# EAGLE library part SD_CARD (library PP_Connectors)
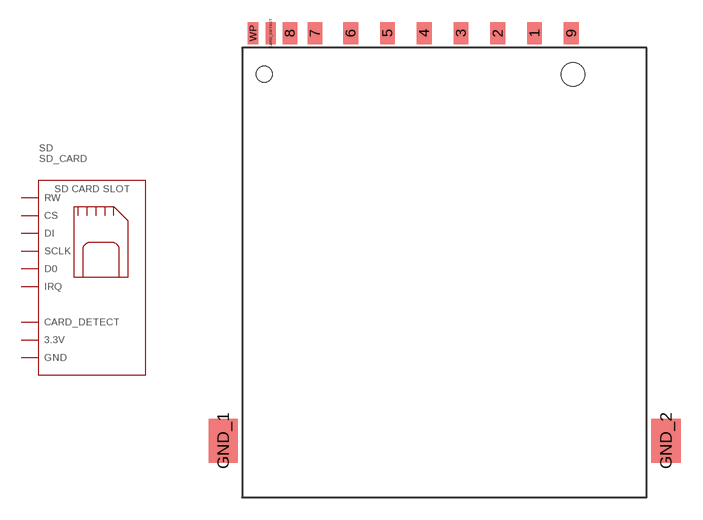
[diagram p5: symbol with the pads of SD-RSMT-2-MQ; footprint SD-RSMT-2-MQ]

Designator prefix SD

## SD_CARD_SD-RSMT-2-MQ (POPULATE: 1)  [SD-RSMT-2-MQ]
1  CS
2  DI
3  GND
4  3.3V
5  SCLK
6  GND
7  D0
8  IRQ
9  RW
CARD_DETECT  CD
GND_1  GND
GND_2  GND

## Footprint SD-RSMT-2-MQ (pad centres in mm)
smd 1 x 1.5: 1 6.88,0; 2 4.38,0; 3 1.88,0; 4 -0.62,0; 5 -3.12,0; 6 -5.62,0; 7 -8.05,0; 8 -9.75,0; 9 9.38,0
smd 0.7 x 1.5: CARD_DETECT -11.05,0; WP -12.25,0
smd 2 x 3: GND_1 -14.28,-27.75; GND_2 15.82,-27.75
hole 1.6 at 9.5,-2.8
hole 1.1 at -11.5,-2.8